# EAGLE library part ESP32-C6 (library ESP32-C6)
QFN32 (55 mm) Package Source: Datasheet
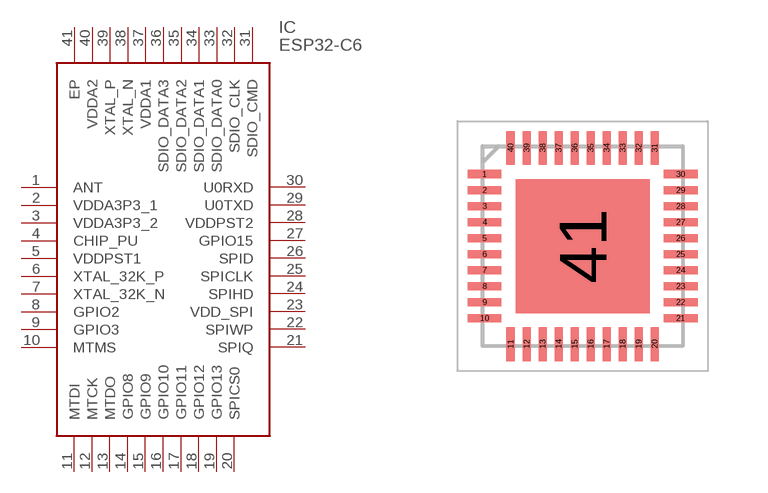
[diagram p0: symbol with the pads of QFN40P500X500X90-41N; footprint QFN40P500X500X90-41N]

Designator prefix IC

## ESP32-C6 (Description: QFN32 (55 mm) Package; Height: 0.9mm; Manufacturer_Name: Espressif Systems; Manufacturer_Part_Number: ESP32-C6; Mouser_Part_Number: 356-ESP32-C6; Mouser_Price-Stock: https://www.mouser.co.uk/ProductDetail/Espressif-Systems/ESP32-C6?qs=Imq1NPwxi75noDtUpuVuWw%3D%3D)  [QFN40P500X500X90-41N]
1  ANT
2  VDDA3P3_1
3  VDDA3P3_2
4  CHIP_PU
5  VDDPST1
6  XTAL_32K_P
7  XTAL_32K_N
8  GPIO2
9  GPIO3
10  MTMS
11  MTDI
12  MTCK
13  MTDO
14  GPIO8
15  GPIO9
16  GPIO10
17  GPIO11
18  GPIO12
19  GPIO13
20  SPICS0
21  SPIQ
22  SPIWP
23  VDD_SPI
24  SPIHD
25  SPICLK
26  SPID
27  GPIO15
28  VDDPST2
29  U0TXD
30  U0RXD
31  SDIO_CMD
32  SDIO_CLK
33  SDIO_DATA0
34  SDIO_DATA1
35  SDIO_DATA2
36  SDIO_DATA3
37  VDDA1
38  XTAL_N
39  XTAL_P
40  VDDA2
41  EP

## Footprint QFN40P500X500X90-41N (pad centres in mm)
ESP32-C6aaa
smd 0.85 x 0.2: 1 -2.45,1.8; 2 -2.45,1.4; 3 -2.45,1; 4 -2.45,0.6; 5 -2.45,0.2; 6 -2.45,-0.2; 7 -2.45,-0.6; 8 -2.45,-1; 9 -2.45,-1.4; 10 -2.45,-1.8; 21 2.45,-1.8; 22 2.45,-1.4; 23 2.45,-1; 24 2.45,-0.6; 25 2.45,-0.2; 26 2.45,0.2; 27 2.45,0.6; 28 2.45,1; 29 2.45,1.4; 30 2.45,1.8
smd 0.2 x 0.85: 11 -1.8,-2.45; 12 -1.4,-2.45; 13 -1,-2.45; 14 -0.6,-2.45; 15 -0.2,-2.45; 16 0.2,-2.45; 17 0.6,-2.45; 18 1,-2.45; 19 1.4,-2.45; 20 1.8,-2.45; 31 1.8,2.45; 32 1.4,2.45; 33 1,2.45; 34 0.6,2.45; 35 0.2,2.45; 36 -0.2,2.45; 37 -0.6,2.45; 38 -1,2.45; 39 -1.4,2.45; 40 -1.8,2.45
smd 3.35 x 3.35: 41 0,0